# Altium footprint library all_kalex_Library.PcbLib: 234 footprints (part 9 of 15)
Each footprint in its own frame and in the unit in brackets; x right, y up, seen from the top. Pads: shape width x height; smd on the part's side, far side on the other; paste and mask are expansions set on the pad; w line width, h text height; cw(c..) or ccw(c..) is an arc to the next point about the centre after c.
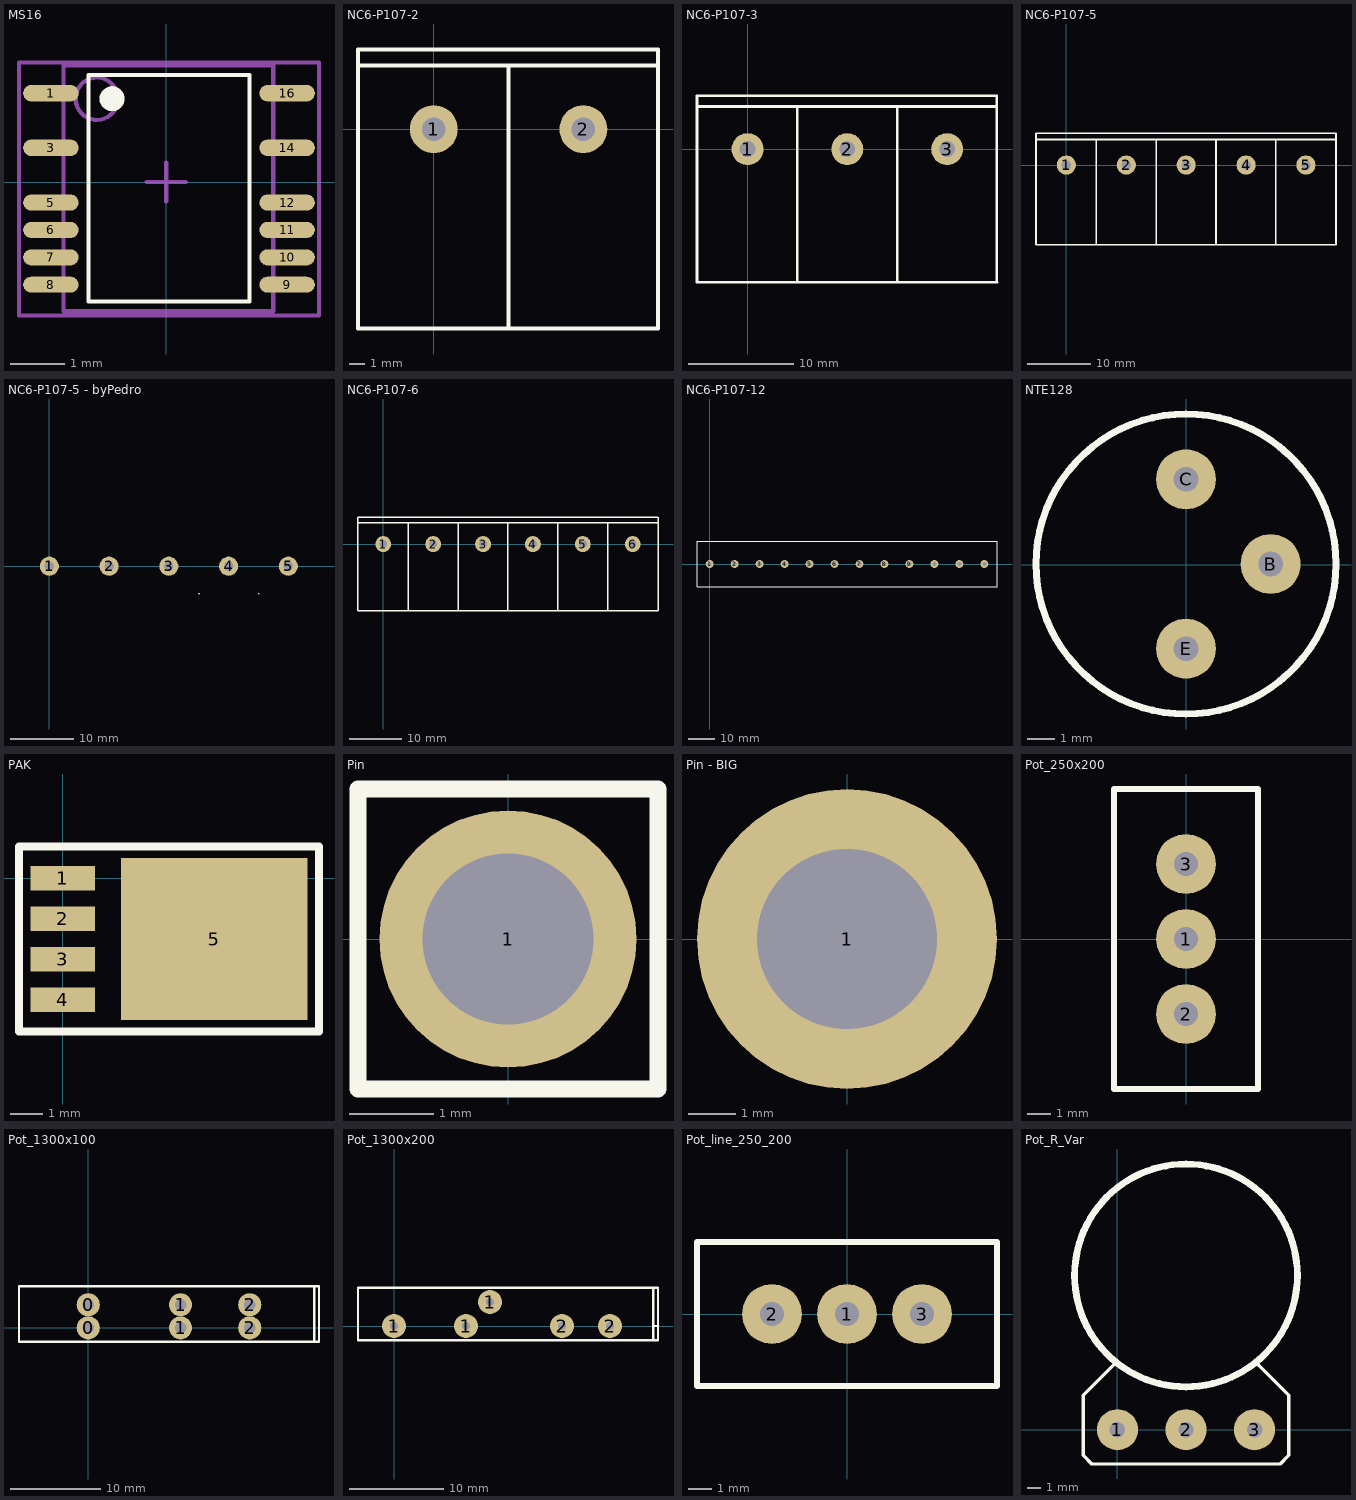
[diagram p8: the footprints below, top view; thin cyan lines are the x and y axes]

## MS16 [mil] "8-Pin Small Outline Integrated Circuit 1.27 mm Pitch, IPC High Density"
height 68.11
pads (12):
  oval 40x12 smd: 1(-83,64) 3(-83,24.6) 14(87,24.6) 16(87,64)
  oval 40x11.5 smd: 5(-83,-14.8) 6(-83,-34.5) 7(-83,-54.2) 8(-83,-73.9) 9(87,-73.9) 10(87,-54.2) 11(87,-34.5) 12(87,-14.8)
Top Overlay:
  circle w10: c-39,60 r4
  lines w3: -56,-86 -56,77 60,77 60,-86 -56,-86
Mechanical 1:
  circle w3: c-50,60 r15.23
  lines w3: -74,-93 -74,84 77,84 77,-93 -74,-93
Mechanical 15:
  lines w3: -14,0 14,0 ; 0,-14 0,14 ; -106,-96 110,-96 110,86 -106,86 -106,-96
3D body: height 79.92, standoff 0, extent -74,-93 77,84

## NC6-P107-2 [mil]
pads (2):
  round 120 hole 59.06: 1(0,0) 2(375,0)
Top Overlay:
  lines w10: -189,160 562,160 ; 187,-500 187,160 ; -190,-500 562,-500 562,200 -190,200 -190,-500

## NC6-P107-3 [mil]
pads (3):
  round 120 hole 59.06: 1(0,0) 2(375,0) 3(750,0)
Top Overlay:
  lines w10: -189,160 937,160 ; 187,-500 187,160 ; 562,-500 562,160 ; 937,160 937,-499.5 937.5,-500 -190,-500 -190,200 937,200 937,160

## NC6-P107-5 [mil]
pads (5):
  round 120 hole 59.06: 1(0,0) 2(375,0) 3(750,0) 4(1125,0) 5(1500,0)
Top Overlay:
  lines w10: -188,160 1688,160 ; 187,-500 187,160 ; 562,-500 562,160 ; 937,160 937,-499.5 937.5,-500 ; 1311,-500 1312,-499 1312,160 ; 1688,160 1688,-499 1687,-500 -190,-500 -190,200 1688,200 1688,160

## NC6-P107-5 - byPedro [mil]
pads (5):
  round 120 hole 59.06: 1(0,0) 2(374,0) 3(748,0) 4(1122,0) 5(1496,0)
Top Overlay:
  lines w10: 937,-171.5 937.5,-172 ; 1311,-172 1312,-171
Bottom Overlay:
  lines w10: -188,160 1688,160 ; 187,-171 187,160 ; 562,-172 562,160 ; 937,-171.5 937,160 ; 1312,-171 1312,160 ; 1688,160 1688,200 -190,200 -190,-172 1688,-172 1688,160

## NC6-P107-6 [mil]
pads (6):
  round 120 hole 59.06: 1(0,0) 2(375,0) 3(750,0) 4(1125,0) 5(1500,0) 6(1875,0)
Top Overlay:
  lines w10: -188,160 2065,160 ; 187,-500 187,160 ; 562,-500 562,160 ; 937,160 937,-499.5 937.5,-500 ; 1311,-500 1312,-499 1312,160 ; 1687,-500 1688,-499 1688,160 ; 2064,200 -190,200 -190,-500 2065,-500 2065,200

## NC6-P107-12 [mil] "Connector"
pads (12):
  round 120 hole 59.06: 1(0,0) 2(375,0) 3(750,0) 4(1125,0) 5(1500,0) 6(1875,0) 7(2250,0) 8(2625,0) 9(3000,0) 10(3375,0) 11(3750,0) 12(4125,0)
Top Overlay:
  lines w10: -190,-340 -190,340 4315,340 4315,-340 -190,-340

## NTE128 [mil]
pads (3):
  round 85 hole 35: B(120,1) C(0,121) E(0,-119)
Top Overlay:
  circle w10: c0,1 r212.6

## PAK [mil] "MOSFET"
pads (5):
  rect 80x30 smd: 1(0,0) 2(0,-50) 3(0,-100) 4(0,-150)
  rect 230x200 smd: 5(187,-75)
Top Overlay:
  lines w10: -54,-189 -54,39 316,39 316,-189 -54,-189
3D body: height 250, standoff 0, extent -29,-173 290,23

## Pin [mil]
pads (1):
  round 120 hole 80: 1(0,0)
Top Overlay:
  lines w8: -70,-70 70,-70 70,70 -70,70 -70,-70

## Pin - BIG [mil]
pads (1):
  round 250 hole 150: 1(0,0)

## Pot_250x200 [mil] "Potenciometer"
pads (3):
  round 100 hole 40: 1(0,0) 2(0,-125) 3(0,125)
Top Overlay:
  lines w10: -120,-250 -120,250 120,250 120,-250 -120,-250

## Pot_1300x100 [mil]
pads (6):
  round 100 hole 50: 0(0,0) 0(0,100) 1(400,0) 1(400,100) 2(700,0) 2(700,100)
Top Overlay:
  lines w10: 980,-60 980,180 ; -300,-60 -300,180 1000,180 1000,-60 -300,-60

## Pot_1300x200 [mil]
pads (5):
  round 100 hole 35: 1(0,0) 1(300,0) 1(400,100) 2(700,0) 2(900,0)
Top Overlay:
  lines w10: 1080,-60 1080,160 ; 1080,0 1100,0 ; -150,-60 1100,-60 1100,160 -150,160 -150,-60

## Pot_line_250_200 [mil]
pads (3):
  round 100 hole 40: 1(0,0) 2(-125,0) 3(125,0)
Top Overlay:
  lines w10: -250,-120 -250,120 250,120 250,-120 -250,-120

## Pot_R_Var [mil] "Potenciometer"
pads (3):
  round 120 hole 45: 1(0,0) 2(200,0) 3(400,0)
Top Overlay:
  circle w20: c200,450 r325
  lines w10: -100,75 -100,100 ; 0,200 -100,100 ; 400,200 500,100 500,-75 475,-100 -75,-100 -100,-75 -100,100